# EAGLE library part IP4786CZ32 (library IP4786CZ32)
IP4786CZ32 DVI AND HDMI interface ESD and overcurrent protection
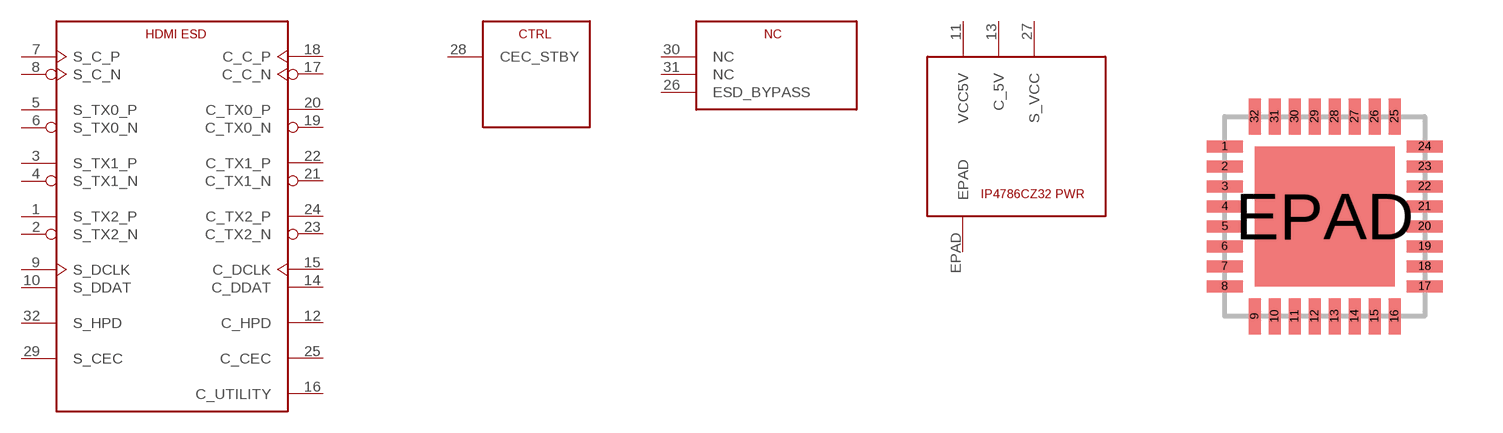
[diagram p0: symbol with the pads of SOT617-3; footprint SOT617-3]

Designator prefix -; gates G$1=IP4786CZ32 G$2=IP4786CZ32_CTRL G$3=IP4786CZ32_NC G$4=IP4786CZ32_PWR

## IP4786CZ32SOT617-3  [SOT617-3]
1  G$1:S_TX2_P  in
2  G$1:S_TX2_N  in
3  G$1:S_TX1_P  in
4  G$1:S_TX1_N  in
5  G$1:S_TX0_P  in
6  G$1:S_TX0_N  in
7  G$1:S_C_P  in
8  G$1:S_C_N  in
9  G$1:S_DCLK  in
10  G$1:S_DDAT  in
11  G$4:VCC5V  pwr
12  G$1:C_HPD  out
13  G$4:C_5V  pwr
14  G$1:C_DDAT  out
15  G$1:C_DCLK  out
16  G$1:C_UTILITY  out
17  G$1:C_C_N  out
18  G$1:C_C_P  out
19  G$1:C_TX0_N  out
20  G$1:C_TX0_P  out
21  G$1:C_TX1_N  out
22  G$1:C_TX1_P  out
23  G$1:C_TX2_N  out
24  G$1:C_TX2_P  out
25  G$1:C_CEC  out
26  G$3:ESD_BYPASS  nc
27  G$4:S_VCC  pwr
28  G$2:CEC_STBY  in
29  G$1:S_CEC  in
30  G$3:NC  nc
31  G$3:NC  nc
32  G$1:S_HPD  in
EPAD  G$4:EPAD  pwr

## Footprint SOT617-3 (pad centres in mm)
smd 0.9 x 0.3: 1 -2.5,1.75; 2 -2.5,1.25; 3 -2.5,0.75; 4 -2.5,0.25; 5 -2.5,-0.25; 6 -2.5,-0.75; 7 -2.5,-1.25; 8 -2.5,-1.75; 17 2.5,-1.75; 18 2.5,-1.25; 19 2.5,-0.75; 20 2.5,-0.25; 21 2.5,0.25; 22 2.5,0.75; 23 2.5,1.25; 24 2.5,1.75
smd 0.3 x 0.9: 9 -1.75,-2.5; 10 -1.25,-2.5; 11 -0.75,-2.5; 12 -0.25,-2.5; 13 0.25,-2.5; 14 0.75,-2.5; 15 1.25,-2.5; 16 1.75,-2.5; 25 1.75,2.5; 26 1.25,2.5; 27 0.75,2.5; 28 0.25,2.5; 29 -0.25,2.5; 30 -0.75,2.5; 31 -1.25,2.5; 32 -1.75,2.5
smd 3.5 x 3.5: EPAD 0,0